# EAGLE library part MAX1553ETA+T (library vikc-ic)
40V Step-Up Converter for Four to Ten White LEDs
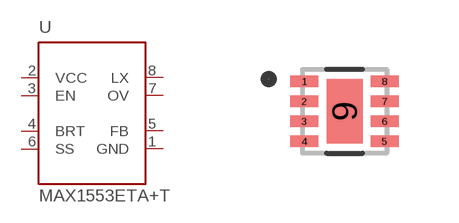
[diagram p10: symbol with the pads of SON50P200X200X80-9N; footprint SON50P200X200X80-9N]

Designator prefix U

## MAX1553ETA+T  [SON50P200X200X80-9N]
1  GND
2  VCC
3  EN
4  BRT
5  FB
6  SS
7  OV
8  LX

## Footprint SON50P200X200X80-9N (pad centres in mm)
smd 0.71 x 0.27: 1 -1.005,0.75; 2 -1.005,0.25; 3 -1.005,-0.25; 4 -1.005,-0.75; 5 1.005,-0.75; 6 1.005,-0.25; 7 1.005,0.25; 8 1.005,0.75
smd 0.9 x 1.6: 9 0,0